# EAGLE library part CXOHV8 (library NewSDR)
TCO With Voltage Trim - 14-Pin DIP Package
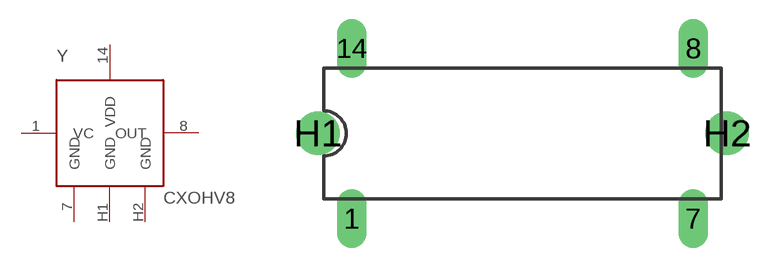
[diagram p40: symbol with the pads of DIL14_OSC; footprint DIL14_OSC]

Designator prefix Y

## CXOHV8  [DIL14_OSC]
1  VC  pas
7  GND  pwr
8  OUT  out
14  VDD  pwr
H1  GND  pwr
H2  GND  pwr

## Footprint DIL14_OSC (pad centres in mm)
14-Pin Oscillator Mounting
drill 0.813 long: 1 -7.62,-3.81; 7 7.62,-3.81; 8 7.62,3.81; 14 -7.62,3.81
drill 1.295: H1 -9.144,0; H2 9.144,0